# Altium footprint library Diode_SMD.PcbLib: 69 footprints (part 4 of 5)
Each footprint in its own frame and in the unit in brackets; x right, y up, seen from the top. Pads: shape width x height; smd on the part's side, far side on the other; paste and mask are expansions set on the pad; w line width, h text height; cw(c..) or ccw(c..) is an arc to the next point about the centre after c.
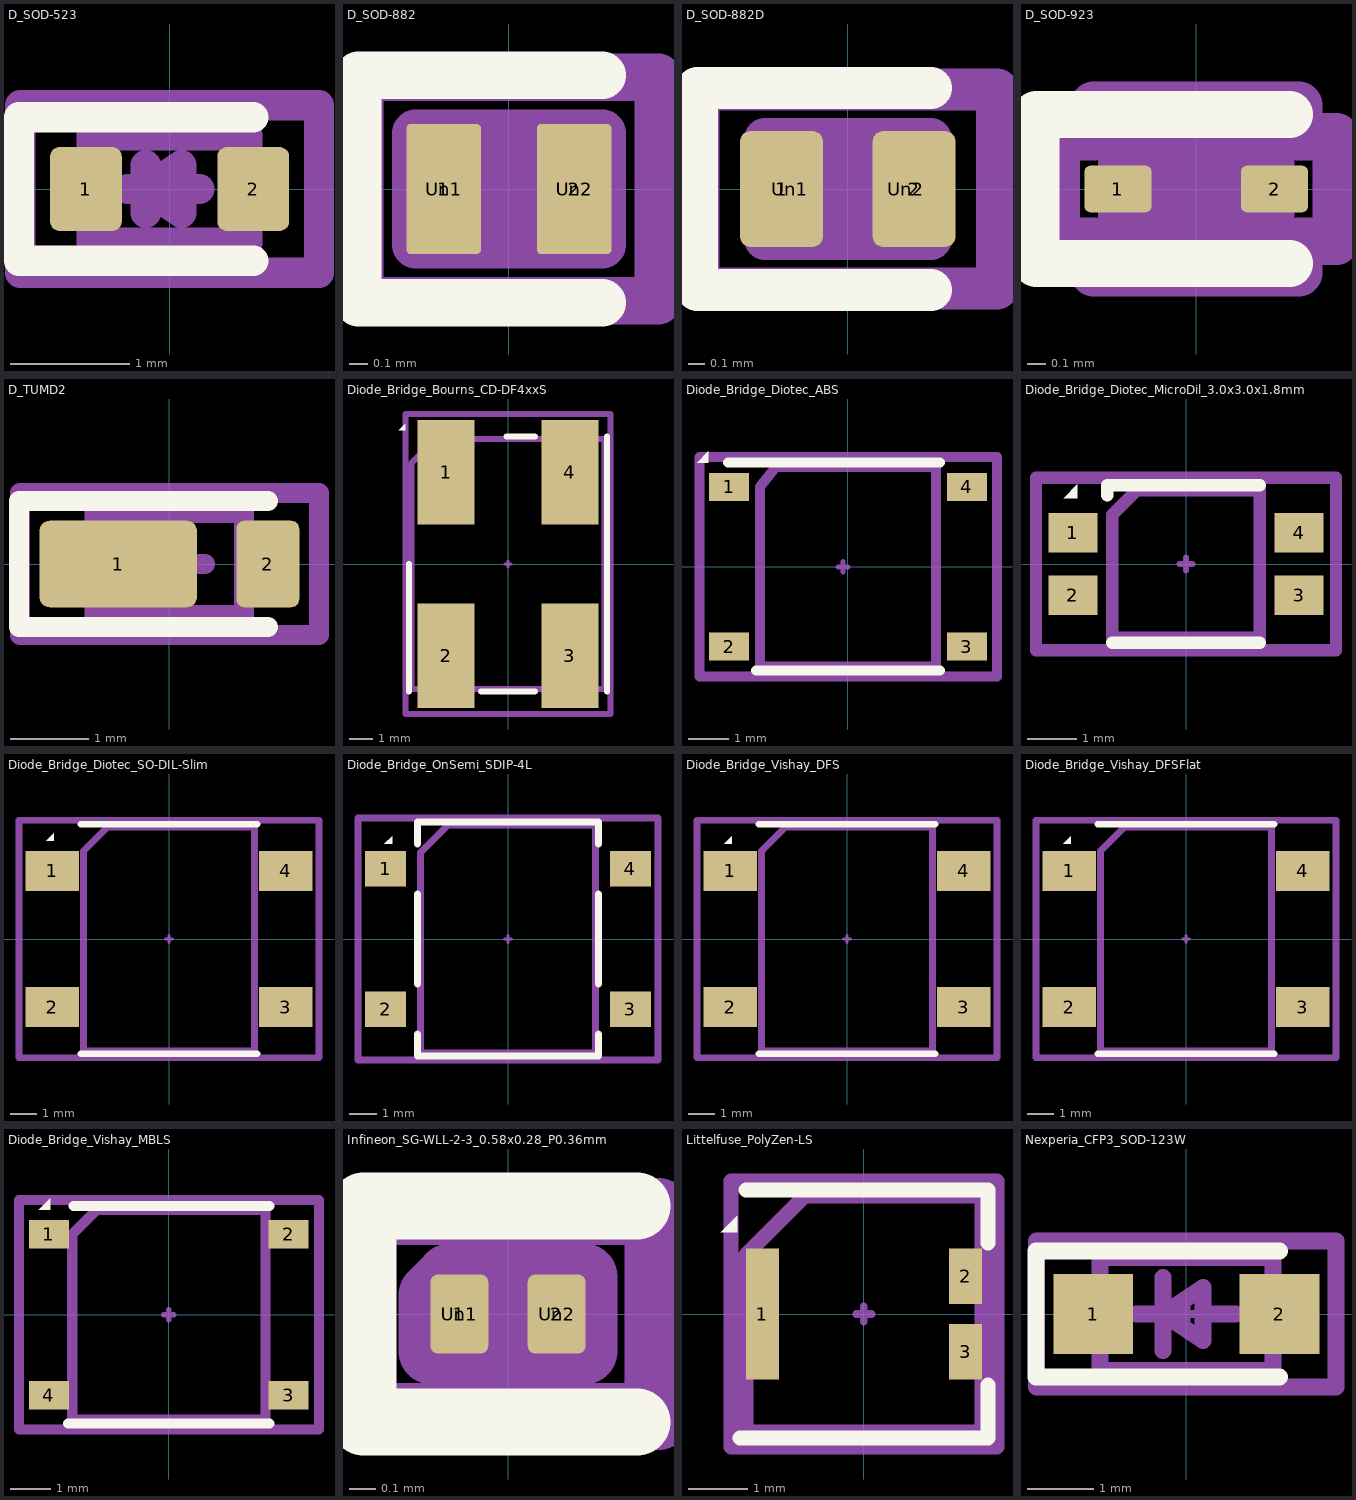
[diagram p3: the footprints below, top view; thin cyan lines are the x and y axes]

## D_SOD-523 [mm] "D_SOD-523"
pads (2):
  rrect25% 0.6x0.7 smd: 1(-0.7,0) 2(0.7,0)
F.SilkS:
  lines w0.254: 0.7,-0.6 -1.26,-0.6 -1.26,0.6 0.7,0.6
Top Component Center:
  lines w0.127: -0.127,0 0.127,0 ; 0,-0.127 0,0.127
Top Assembly:
  lines w0.254: -0.35,0 -0.2,0 ; -0.2,-0.2 -0.2,0.2 ; 0.1,0 0.25,0 ; -0.2,0 0.1,-0.2 0.1,0.2 -0.2,0 ; -0.65,-0.45 -0.65,0.45 0.65,0.45 0.65,-0.45 -0.65,-0.45
Top Courtyard:
  lines w0.254: -1.25,-0.7 -1.25,0.7 1.25,0.7 1.25,-0.7 -1.25,-0.7
Top Designator:
  text ".Designator" at -1.127,-0.113 h0.5
3D body "D_SOD-523.step": height 0.63, standoff 0, extent -0.8,-0.4 0.8,0.4

## D_SOD-882 [mm] "D_SOD-882"
pads (4):
  rrect12% 0.4x0.7 smd: 1(-0.35,0) 2(0.35,0)
  rrect17% 0.3x0.6 on Top Paste: Un1(-0.35,0) Un2(0.35,0)
F.SilkS:
  lines w0.254: 0.5,-0.61 -0.81,-0.61 -0.81,0.61 0.5,0.61
Top Component Center:
  lines w0.127: -0.127,0 0.127,0 ; 0,-0.127 0,0.127
Top Assembly:
  lines w0.254: -0.3,0 -0.15,0 ; -0.15,-0.2 -0.15,0.2 ; 0.15,0 0.3,0 ; -0.15,0 0.15,0.2 0.15,-0.2 -0.15,0 ; -0.5,-0.3 0.5,-0.3 0.5,0.3 -0.5,0.3 -0.5,-0.3
Top Courtyard:
  lines w0.254: -0.8,-0.6 0.8,-0.6 0.8,0.6 -0.8,0.6 -0.8,-0.6
Top Designator:
  text ".Designator" at -1.127,-0.113 h0.5
3D body "D_SOD-882.step": height 0.49, standoff 0, extent -0.5,-0.3 0.5,0.3

## D_SOD-882D [mm] "D_SOD-882D"
pads (4):
  rrect25% 0.5x0.7 smd: 1(-0.4,0) 2(0.4,0)
  rrect25% 0.3x0.6 on Top Paste: Un1(-0.35,0) Un2(0.35,0)
F.SilkS:
  lines w0.254: 0.5,-0.61 -0.91,-0.61 -0.91,0.61 0.5,0.61
Top Component Center:
  lines w0.127: -0.127,0 0.127,0 ; 0,-0.127 0,0.127
Top Assembly:
  lines w0.254: -0.3,0 -0.15,0 ; -0.15,-0.2 -0.15,0.2 ; 0.15,0 0.3,0 ; -0.15,0 0.15,0.2 0.15,-0.2 -0.15,0 ; -0.5,-0.3 0.5,-0.3 0.5,0.3 -0.5,0.3 -0.5,-0.3
Top Courtyard:
  lines w0.254: -0.9,-0.6 0.9,-0.6 0.9,0.6 -0.9,0.6 -0.9,-0.6
Top Designator:
  text ".Designator" at -1.127,-0.113 h0.5
3D body "D_SOD-882D.step": height 0.41, standoff 0, extent -0.5,-0.28 0.5,0.28

## D_SOD-923 [mm] "D_SOD-923"
pads (2):
  rrect25% 0.36x0.25 smd: 1(-0.42,0) 2(0.42,0)
F.SilkS:
  lines w0.254: 0.5,-0.4 -0.86,-0.4 -0.86,0.4 0.5,0.4
Top Component Center:
  lines w0.127: -0.127,0 0.127,0 ; 0,-0.127 0,0.127
Top Assembly:
  lines w0.254: -0.25,0 -0.15,0 ; -0.15,-0.2 -0.15,0.2 ; 0.15,0 0.25,0 ; -0.15,0 0.15,-0.2 0.15,0.2 -0.15,0 ; -0.4,-0.3 -0.4,0.3 0.4,0.3 0.4,-0.3 -0.4,-0.3
Top Courtyard:
  lines w0.254: -0.75,-0.28 -0.75,0.28 -0.55,0.28 -0.55,0.45 0.55,0.45 0.55,0.28 0.75,0.28 0.75,-0.28 0.55,-0.28 0.55,-0.45 -0.55,-0.45 -0.55,-0.28 -0.75,-0.28
Top Designator:
  text ".Designator" at -1.127,-0.113 h0.5
3D body "D_SOD-923.step": height 0.37, standoff 0, extent -0.5,-0.3 0.5,0.3

## D_TUMD2 [mm] "D_TUMD2"
pads (2):
  rrect23% 2x1.1 smd: 1(-0.65,0)
  rrect25% 0.8x1.1 smd: 2(1.25,0)
F.SilkS:
  lines w0.254: 1.25,-0.8 -1.91,-0.8 -1.91,0.8 1.25,0.8
Top Component Center:
  lines w0.127: -0.127,0 0.127,0 ; 0,-0.127 0,0.127
Top Assembly:
  lines w0.254: -0.5,0 -0.3,0 ; -0.3,-0.35 -0.3,0.35 ; 0.2,0 0.45,0 ; -0.3,0 0.2,0.35 0.2,-0.35 -0.3,0 ; -0.95,-0.65 -0.95,0.65 0.95,0.65 0.95,-0.65 -0.95,-0.65
Top Courtyard:
  lines w0.254: -1.9,-0.9 -1.9,0.9 1.9,0.9 1.9,-0.9 -1.9,-0.9
Top Designator:
  text ".Designator" at -1.69,-0.169 h0.75
3D body "D_TUMD2.step": height 0.62, standoff 0, extent -1.25,-0.65 1.25,0.65

## Diode_Bridge_Bourns_CD-DF4xxS [mm] "Diode_Bridge_Bourns_CD-DF4xxS"
pads (4):
  rect 2.4x4.4 smd: 1(-2.6,3.85) 2(-2.6,-3.85) 3(2.6,-3.85) 4(2.6,3.85)
F.SilkS:
  region: -4.31,5.61 -4.59,5.61 -4.31,5.89
  lines w0.254: -4.16,-5.36 -4.16,0 ; -1.14,-5.36 1.13,-5.36 ; -0.07,5.36 1.13,5.36 ; 4.16,-5.36 4.16,5.36
Top Component Center:
  lines w0.127: -0.127,0 0.127,0 ; 0,-0.127 0,0.127
Top Assembly:
  lines w0.254: -4.05,-5.25 4.05,-5.25 4.05,5.25 -3.05,5.25 -4.05,4.25 -4.05,-5.25
Top Courtyard:
  lines w0.254: -4.3,-6.3 4.3,-6.3 4.3,6.3 -4.3,6.3 -4.3,-6.3
Top Designator:
  text ".Designator" at -3.435,-0.344 h1.52

## Diode_Bridge_Diotec_ABS [mm] "Diode_Bridge_Diotec_ABS"
pads (4):
  rect 1x0.7 smd: 1(-2.975,2) 2(-2.975,-2) 3(2.975,-2) 4(2.975,2)
F.SilkS:
  region: -3.5,2.61 -3.78,2.61 -3.5,2.89
  lines w0.254: -3,2.61 2.3,2.61 ; -2.3,-2.6 2.3,-2.6
Top Component Center:
  lines w0.127: -0.254,0 0,0 ; -0.127,-0.127 -0.127,0.127
Top Assembly:
  lines w0.254: -2.2,-2.5 -2.2,2 -1.8,2.5 2.2,2.5 2.2,-2.5 -2.2,-2.5
Top Courtyard:
  lines w0.254: -3.72,-2.75 -3.72,2.75 3.73,2.75 3.73,-2.75 -3.72,-2.75
Top Designator:
  text ".Designator" at -3.435,-0.344 h1.52
3D body "Diode_Bridge_Diotec_ABS.step": height 1.6, standoff 0, extent -3.1,-2.5 3.1,2.5

## Diode_Bridge_Diotec_MicroDil_3.0x3.0x1.8mm [mm] "Diode_Bridge_Diotec_MicroDil_3.0x3.0x1.8mm"
pads (4):
  rect 1x0.8 smd: 1(-2.3,0.635) 2(-2.3,-0.635) 3(2.3,-0.635) 4(2.3,0.635)
F.SilkS:
  region: -2.21,1.34 -2.49,1.34 -2.21,1.62
  lines w0.254: -1.6,1.4 -1.6,1.6 1.5,1.6 ; -1.5,-1.6 1.5,-1.6
Top Component Center:
  lines w0.127: -0.127,0 0.127,0 ; 0,-0.127 0,0.127
Top Assembly:
  lines w0.254: -1.5,-1.5 -1.5,1 -1,1.5 1.5,1.5 1.5,-1.5 -1.5,-1.5
Top Courtyard:
  lines w0.254: -3.05,-1.75 -3.05,1.75 3.05,1.75 3.05,-1.75 -3.05,-1.75
Top Designator:
  text ".Designator" at -2.254,-0.226 h1
3D body "Diode_Bridge_Diotec_MicroDil_3.0x3.0x1.8mm.step": height 1.8, standoff 0, extent -2.8,-1.5 2.8,1.5

## Diode_Bridge_Diotec_SO-DIL-Slim [mm] "Diode_Bridge_Diotec_SO-DIL-Slim"
pads (4):
  rect 2x1.5 smd: 1(-4.37,2.55) 2(-4.37,-2.55) 3(4.37,-2.55) 4(4.37,2.55)
F.SilkS:
  region: -4.32,3.68 -4.6,3.68 -4.32,3.96
  lines w0.254: -3.3,-4.3 3.3,-4.3 ; -3.3,4.3 3.3,4.3
Top Component Center:
  lines w0.127: -0.127,0 0.127,0 ; 0,-0.127 0,0.127
Top Assembly:
  lines w0.254: -3.2,-4.2 3.2,-4.2 3.2,4.2 -2.3,4.2 -3.2,3.3 -3.2,-4.2
Top Courtyard:
  lines w0.254: -5.62,-4.45 5.62,-4.45 5.62,4.45 -5.62,4.45 -5.62,-4.45
Top Designator:
  text ".Designator" at -3.435,-0.344 h1.52
3D body "Diode_Bridge_Diotec_SO-DIL-Slim.step": height 2.7, standoff 0, extent -5.1,-4.15 5.1,4.15

## Diode_Bridge_OnSemi_SDIP-4L [mm] "Diode_Bridge_OnSemi_SDIP-4L"
pads (4):
  rect 1.5x1.3 smd: 1(-4.45,2.55) 2(-4.45,-2.55) 3(4.45,-2.55) 4(4.45,2.55)
F.SilkS:
  region: -4.213,3.46 -4.493,3.46 -4.213,3.74
  lines w0.254: -3.285,-3.46 -3.285,-4.25 3.285,-4.25 3.285,-3.46 ; -3.285,-1.64 -3.285,1.64 ; -3.285,3.46 -3.285,4.25 ; -3.275,4.25 3.275,4.25 ; 3.285,-1.64 3.285,1.64 ; 3.285,3.46 3.285,4.25
Top Component Center:
  lines w0.127: -0.127,0 0.127,0 ; 0,-0.127 0,0.127
Top Assembly:
  lines w0.254: -3.175,-4.14 3.175,-4.14 3.175,4.14 -2.175,4.14 -3.175,3.14 -3.175,-4.14
Top Courtyard:
  lines w0.254: -5.45,-4.39 5.45,-4.39 5.45,4.39 -5.45,4.39 -5.45,-4.39
Top Designator:
  text ".Designator" at -3.435,-0.344 h1.52
3D body "Diode_Bridge_OnSemi_SDIP-4L.step": height 2.5, standoff 0, extent -4.925,-4.14 4.925,4.14

## Diode_Bridge_Vishay_DFS [mm] "Diode_Bridge_Vishay_DFSDiode_Bridge_Vishay_DFS"
pads (4):
  rect 2x1.5 smd: 1(-4.37,2.55) 2(-4.37,-2.55) 3(4.37,-2.55) 4(4.37,2.55)
F.SilkS:
  region: -4.32,3.57 -4.6,3.57 -4.32,3.85
  lines w0.254: -3.3,-4.3 3.3,-4.3 ; -3.3,4.3 3.3,4.3
Top Component Center:
  lines w0.127: -0.127,0 0.127,0 ; 0,-0.127 0,0.127
Top Assembly:
  lines w0.254: -3.2,-4.2 -3.2,3.3 -2.3,4.2 3.2,4.2 3.2,-4.2 -3.2,-4.2
Top Courtyard:
  lines w0.254: -5.62,-4.45 -5.62,4.45 5.62,4.45 5.62,-4.45 -5.62,-4.45
Top Designator:
  text ".Designator" at -3.435,-0.344 h1.52
3D body "Diode_Bridge_Vishay_DFS.step": height 3.4, standoff 0, extent -5,-4.255 5,4.255

## Diode_Bridge_Vishay_DFSFlat [mm] "Diode_Bridge_Vishay_DFSFlat"
pads (4):
  rect 2x1.5 smd: 1(-4.37,2.55) 2(-4.37,-2.55) 3(4.37,-2.55) 4(4.37,2.55)
F.SilkS:
  region: -4.318,3.57 -4.598,3.57 -4.318,3.85
  lines w0.254: -3.3,-4.3 3.3,-4.3 ; -3.3,4.3 3.3,4.3
Top Component Center:
  lines w0.127: -0.127,0 0.127,0 ; 0,-0.127 0,0.127
Top Assembly:
  lines w0.254: -3.2,-4.2 -3.2,3.3 -2.3,4.2 3.2,4.2 3.2,-4.2 -3.2,-4.2
Top Courtyard:
  lines w0.254: -5.62,-4.45 -5.62,4.45 5.62,4.45 5.62,-4.45 -5.62,-4.45
Top Designator:
  text ".Designator" at -3.435,-0.344 h1.52
3D body "Diode_Bridge_Vishay_DFSFlat.step": height 2.6, standoff 0, extent -5,-4.255 5,4.255

## Diode_Bridge_Vishay_MBLS [mm] "Diode_Bridge_Vishay_MBLS"
pads (4):
  rect 1x0.7 smd: 1(-2.975,2) 2(2.975,2) 3(2.975,-2) 4(-2.975,-2)
F.SilkS:
  region: -2.95,2.61 -3.23,2.61 -2.95,2.89
  lines w0.254: -2.5,-2.7 2.5,-2.7 ; -2.36,2.7 2.5,2.7
Top Component Center:
  lines w0.127: -0.127,0 0.127,0 ; 0,-0.127 0,0.127
Top Assembly:
  lines w0.254: -2.4,-2.6 2.4,-2.6 2.4,2.6 -1.8,2.6 -2.4,2 -2.4,-2.6
Top Courtyard:
  lines w0.254: -3.72,-2.85 3.73,-2.85 3.73,2.85 -3.72,2.85 -3.72,-2.85
Top Designator:
  text ".Designator" at -3.435,-0.344 h1.52
3D body "Diode_Bridge_Vishay_MBLS.step": height 1.63, standoff 0, extent -3.1,-2.55 3.1,2.55

## Infineon_SG-WLL-2-3_0.58x0.28_P0.36mm [mm] "Infineon_SG-WLL-2-3_0.58x0.28_P0.36mm"
pads (4):
  rrect25% 0.22x0.3 smd: 1(-0.185,0) 2(0.185,0)
  rrect48% 0.21x0.29 on Top Paste: Un1(-0.185,0) Un2(0.185,0)
F.SilkS:
  lines w0.254: 0.49,-0.41 -0.55,-0.41 -0.55,0.41 0.49,0.41
Top Component Center:
  lines w0.127: -0.127,0 0.127,0 ; 0,-0.127 0,0.127
Top Assembly:
  lines w0.254: -0.29,-0.14 0.29,-0.14 0.29,0.14 -0.22,0.14 -0.29,0.07 -0.29,-0.14
Top Courtyard:
  lines w0.254: -0.57,-0.39 0.57,-0.39 0.57,0.39 -0.57,0.39 -0.57,-0.39
Top Designator:
  text ".Designator" at -1.127,-0.113 h0.5
3D body "Infineon_SG-WLL-2-3_0.58x0.28_P0.36mm.step": height 0.19, standoff 0, extent -0.29,-0.14 0.29,0.14

## Littelfuse_PolyZen-LS [mm]
pads (3):
  rect 0.56x2.21 smd: 1(-1.72,0)
  rect 0.56x0.94 smd: 2(1.72,0.635) 3(1.72,-0.635)
F.SilkS:
  region: -2.14,1.38 -2.42,1.38 -2.14,1.66
  lines w0.254: -2.1,-2.1 2.1,-2.1 2.1,-1.2 ; -2,2.1 2.1,2.1 2.1,1.2
Top Component Center:
  lines w0.127: -0.127,0 0.127,0 ; 0,-0.127 0,0.127
Top Assembly:
  lines w0.254: -2,-2 -2,1 -1,2 2,2 2,-2 -2,-2
Top Courtyard:
  lines w0.254: -2.25,-2.25 -2.25,2.25 2.25,2.25 2.25,-2.25 -2.25,-2.25
Top Designator:
  text ".Designator" at -3.38,-0.339 h1.5

## Nexperia_CFP3_SOD-123W [mm]
pads (2):
  rect 1.2x1.2 smd: 1(-1.4,0) 2(1.4,0)
F.SilkS:
  lines w0.254: 1.4,-0.95 -2.26,-0.95 -2.26,0.95 1.4,0.95
Top Component Center:
  lines w0.127: -0.127,0 0.127,0 ; 0,-0.127 0,0.127
Top Assembly:
  lines w0.254: -0.75,0 -0.35,0 ; -0.35,-0.55 -0.35,0.55 ; 0.25,0 0.75,0 ; -0.35,0 0.25,-0.4 0.25,0.4 -0.35,0 ; -1.3,-0.85 1.3,-0.85 1.3,0.85 -1.3,0.85 -1.3,-0.85
Top Courtyard:
  lines w0.254: -2.25,-1.1 2.25,-1.1 2.25,1.1 -2.25,1.1 -2.25,-1.1
Top Designator:
  text ".Designator" at -2.254,-0.226 h1